# Altium schematic symbol library Relay.SchLib: 200 symbols (part 2 of 2)
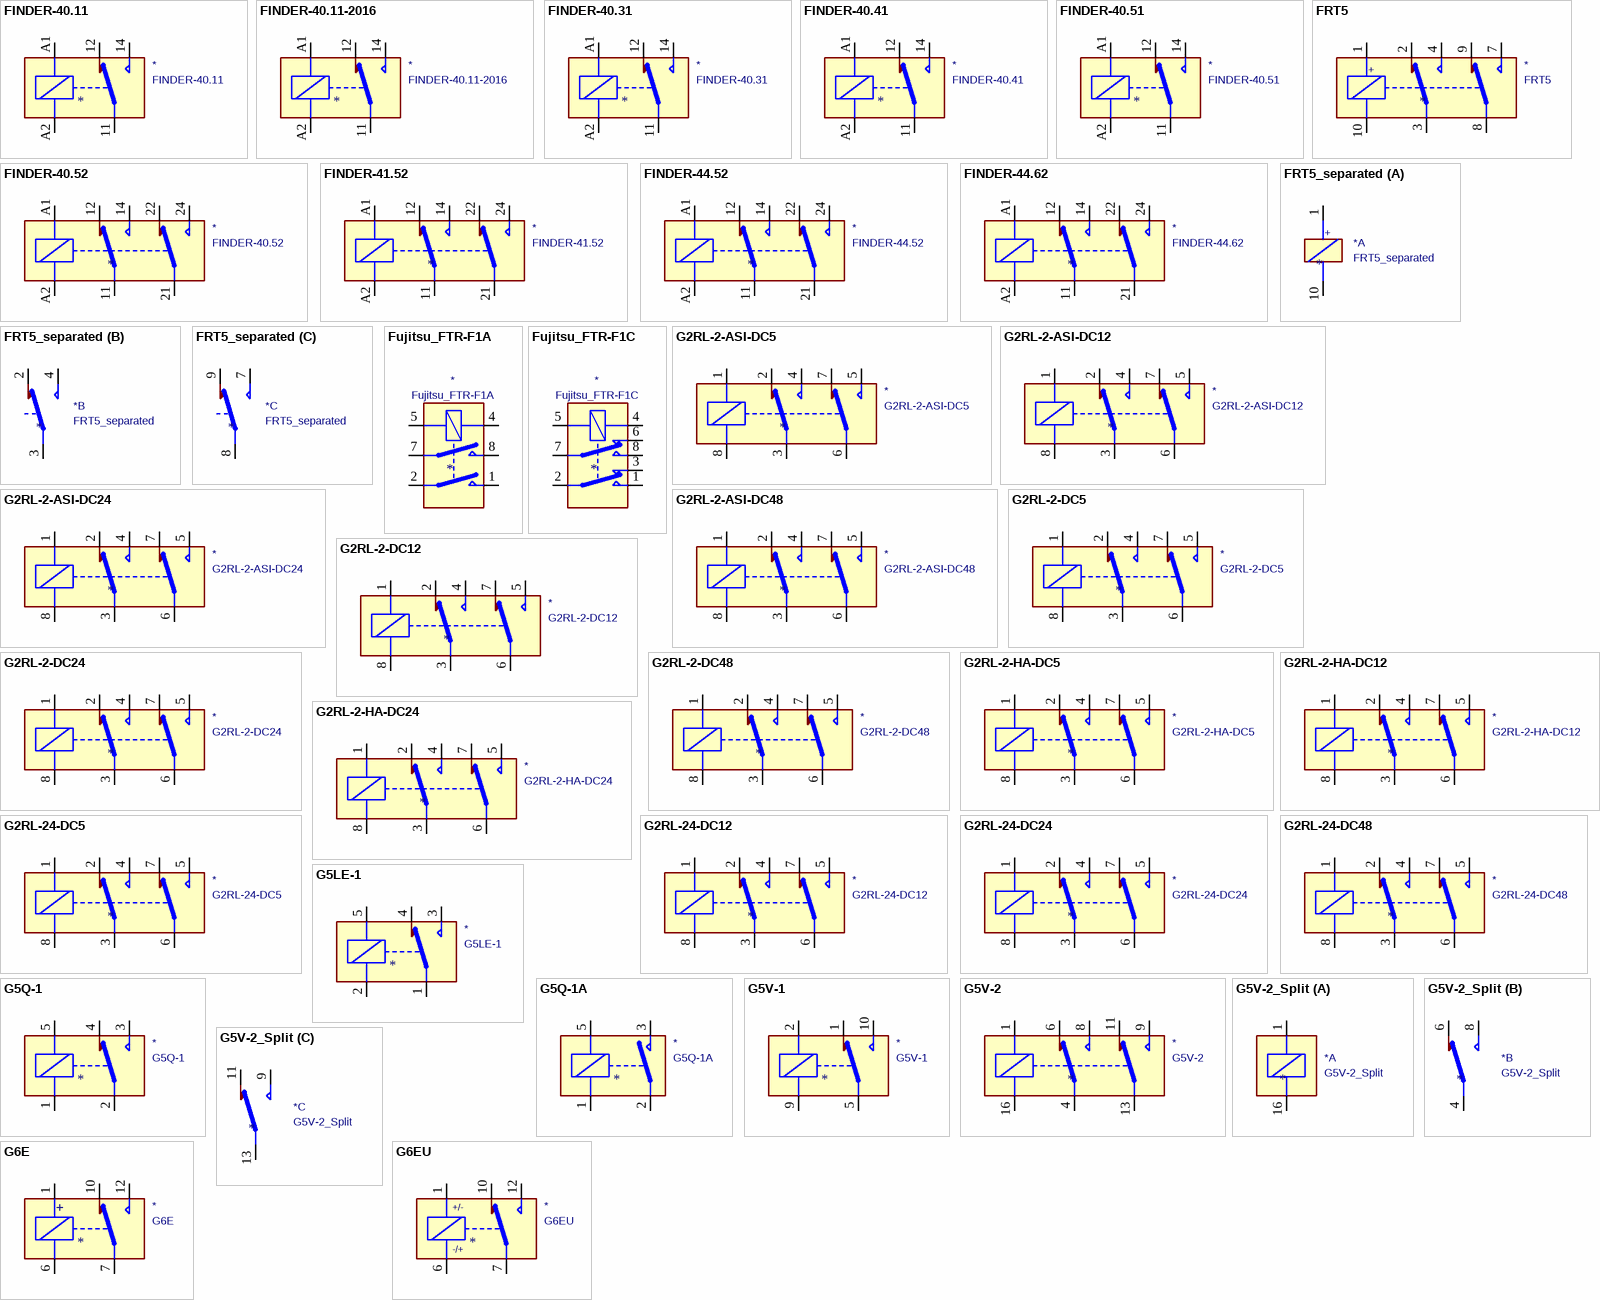
[diagram p6: symbols FINDER-40.11 to G6EU]

## G2RL-24-DC5
designator *  value G2RL-24-DC5
ki_keywords: Omron Relay Dual Pole; ki_description: General Purpose Relay DPDT (2 Form C) Through Hole, Omron G2RL series, sealed, 5V coil; ki_fp_filters: Relay*DPDT*Omron*G2RL*; Footprint: Relay_THT:Relay_DPDT_Omron_G2RL; Supplier: https://omronfs.omron.com/en_US/ecb/products/pdf/en-g2rl.pdf
footprint Relay_DPDT_Omron_G2RL
pins: 1, 2, 3, 4, 5, 6, 7, 8

## G2RL-24-DC12
designator *  value G2RL-24-DC12
ki_keywords: Omron Relay Dual Pole; ki_description: General Purpose Relay DPDT (2 Form C) Through Hole, Omron G2RL series, sealed, 12V coil; ki_fp_filters: Relay*DPDT*Omron*G2RL*; Footprint: Relay_THT:Relay_DPDT_Omron_G2RL; Supplier: https://omronfs.omron.com/en_US/ecb/products/pdf/en-g2rl.pdf
footprint Relay_DPDT_Omron_G2RL
pins: 1, 2, 3, 4, 5, 6, 7, 8

## G2RL-24-DC24
designator *  value G2RL-24-DC24
ki_keywords: Omron Relay Dual Pole; ki_description: General Purpose Relay DPDT (2 Form C) Through Hole, Omron G2RL series, sealed, 24V coil; ki_fp_filters: Relay*DPDT*Omron*G2RL*; Footprint: Relay_THT:Relay_DPDT_Omron_G2RL; Supplier: https://omronfs.omron.com/en_US/ecb/products/pdf/en-g2rl.pdf
footprint Relay_DPDT_Omron_G2RL
pins: 1, 2, 3, 4, 5, 6, 7, 8

## G2RL-24-DC48
designator *  value G2RL-24-DC48
ki_keywords: Omron Relay Dual Pole; ki_description: General Purpose Relay DPDT (2 Form C) Through Hole, Omron G2RL series, sealed, 48V coil; ki_fp_filters: Relay*DPDT*Omron*G2RL*; Footprint: Relay_THT:Relay_DPDT_Omron_G2RL; Supplier: https://omronfs.omron.com/en_US/ecb/products/pdf/en-g2rl.pdf
footprint Relay_DPDT_Omron_G2RL
pins: 1, 2, 3, 4, 5, 6, 7, 8

## G5LE-1
designator *  value G5LE-1
ki_keywords: Miniature Single Pole Relay; ki_description: Omron G5LE relay, Miniature Single Pole, SPDT, 10A; ki_fp_filters: Relay*SPDT*Omron*G5LE?1*; Footprint: Relay_THT:Relay_SPDT_Omron-G5LE-1; Supplier: http://www.omron.com/ecb/products/pdf/en-g5le.pdf
footprint Relay_SPDT_Omron-G5LE-1
pins: 1, 2, 3, 4, 5

## G5Q-1
designator *  value G5Q-1
ki_keywords: Miniature Single Pole Relay; ki_description: Omron G5G relay, Miniature Single Pole, SPDT, 10A; ki_fp_filters: Relay*SPDT*Omron*G5Q*; Footprint: Relay_THT:Relay_SPDT_Omron-G5Q-1; Supplier: https://www.omron.com/ecb/products/pdf/en-g5q.pdf
footprint Relay_SPDT_Omron-G5Q-1
pins: 1, 2, 3, 4, 5

## G5Q-1A
designator *  value G5Q-1A
ki_keywords: Miniature Single Pole Relay; ki_description: Omron G5Q relay, Miniature Single Pole, SPST-NO, 10A; ki_fp_filters: Relay*SPST*Omron*G5Q*; Footprint: Relay_THT:Relay_SPST_Omron-G5Q-1A; Supplier: https://www.omron.com/ecb/products/pdf/en-g5q.pdf
footprint Relay_SPST_Omron-G5Q-1A
pins: 1, 2, 3, 5

## G5V-1
designator *  value G5V-1
ki_keywords: Single Pole Relay SPDT; ki_description: Ultra-miniature, Highly Sensitive SPDT Relay for Signal Circuits; ki_fp_filters: Relay*SPDT*Omron*G5V?1*; Footprint: Relay_THT:Relay_SPDT_Omron_G5V-1; Supplier: http://omronfs.omron.com/en_US/ecb/products/pdf/en-g5v_1.pdf
footprint Relay_SPDT_Omron_G5V-1
pins: 1, 2, 5, 6 hidden, 9, 10

## G5V-2
designator *  value G5V-2
ki_keywords: Miniature Relay Dual Pole DPDT Omron; ki_description: Relay Miniature Omron DPDT; ki_fp_filters: Relay*DPDT*Omron*G5V*; Footprint: Relay_THT:Relay_DPDT_Omron_G5V-2; Supplier: http://omronfs.omron.com/en_US/ecb/products/pdf/en-g5v_2.pdf
footprint Relay_DPDT_Omron_G5V-2
pins: 1, 4, 6, 8, 9, 11, 13, 16

## G5V-2_Split
designator *  value G5V-2_Split
ki_keywords: Miniature Relay Dual Pole DPDT Omron; ki_description: Relay Miniature Omron DPDT; ki_fp_filters: Relay*DPDT*Omron*G5V*; Footprint: Relay_THT:Relay_DPDT_Omron_G5V-2; Supplier: http://omronfs.omron.com/en_US/ecb/products/pdf/en-g5v_2.pdf
footprint Relay_DPDT_Omron_G5V-2
part A pins: 1, 16
part B pins: 4, 6, 8
part C pins: 9, 11, 13

## G6E
designator *  value G6E
ki_keywords: Single Pole Relay SPDT; ki_description: Omron Subminiature Sensitive SPDT Signal Switching Relay, Single-Side Stable; ki_fp_filters: Relay*SPDT*Omron*G6E*; Footprint: Relay_THT:Relay_SPDT_Omron_G6E; Supplier: https://www.omron.com/ecb/products/pdf/en-g6e.pdf
footprint Relay_SPDT_Omron_G6E
pins: 1, 6, 7, 10, 12
text: +

## G6EU
designator *  value G6EU
ki_keywords: Single Pole Relay SPDT; ki_description: Omron G6E relay, Subminiature, Sensitive SPDT Signal Switching Relay, Single-winding latching; ki_fp_filters: Relay*SPDT*Omron*G6E*; Footprint: Relay_THT:Relay_SPDT_Omron_G6E; Supplier: https://www.omron.com/ecb/products/pdf/en-g6e.pdf
footprint Relay_SPDT_Omron_G6E
pins: 1, 6, 7, 10, 12
text: +/-; -/+

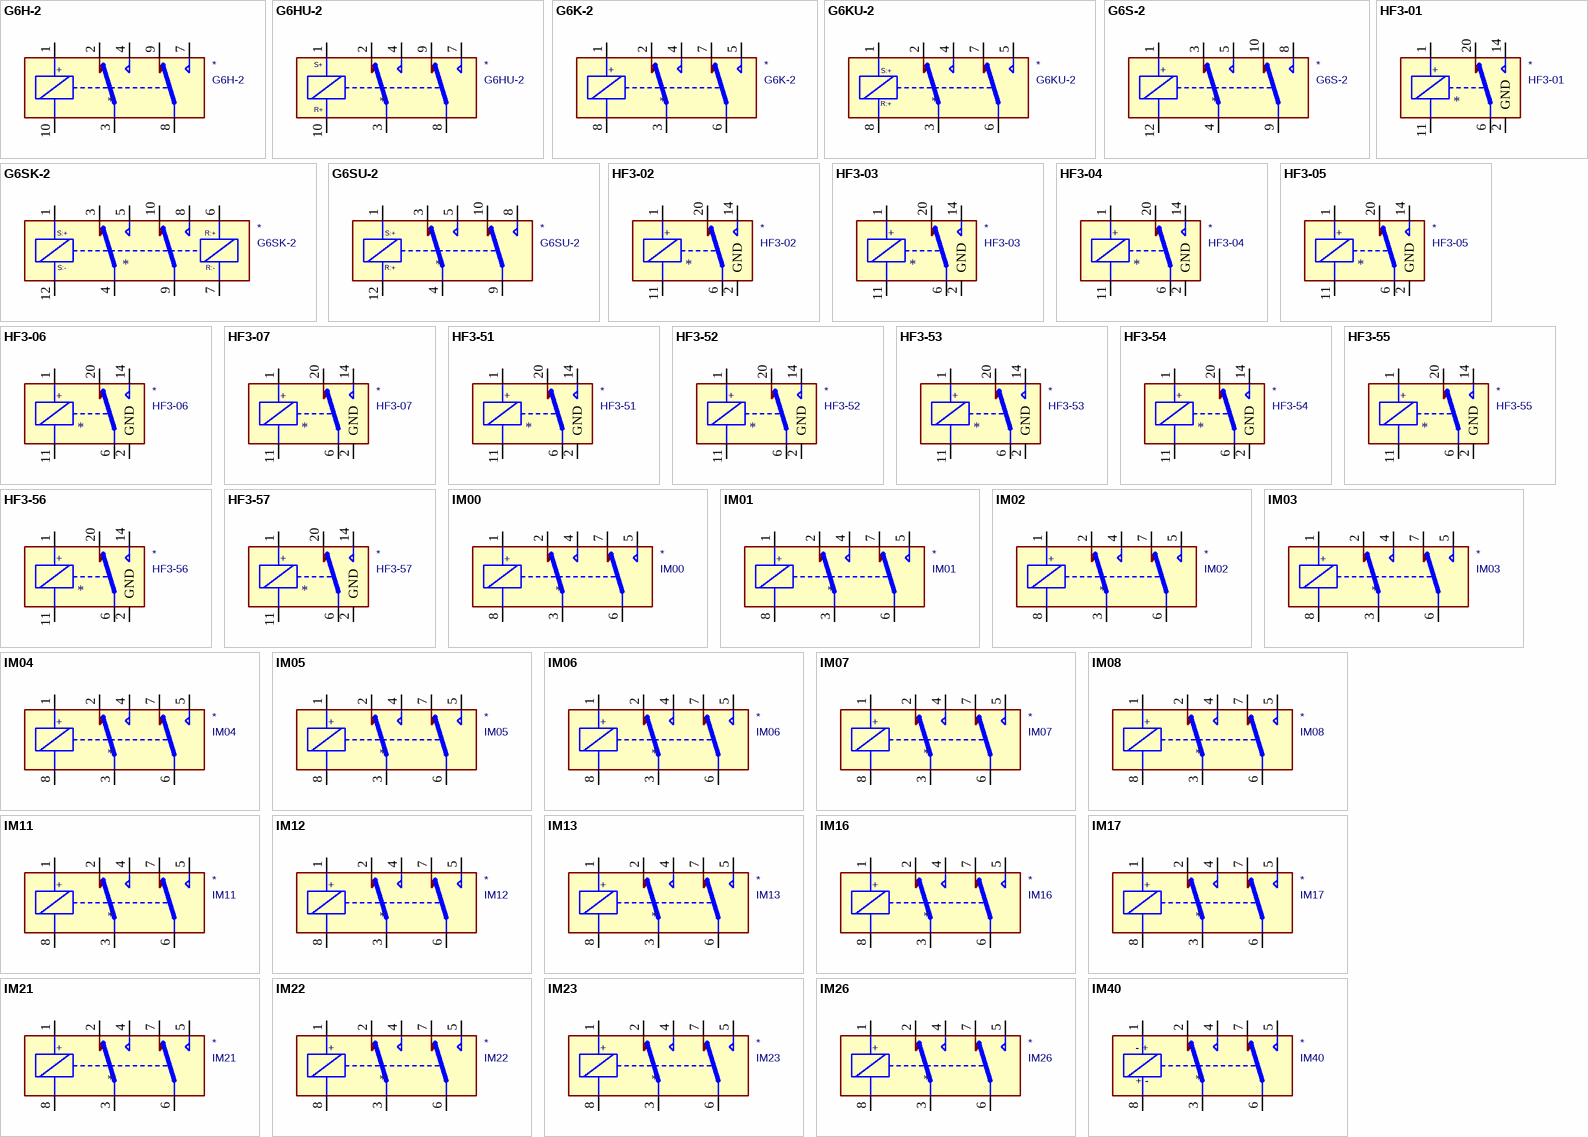
[diagram p3: symbols G6H-2 to IM40]

## G6H-2
designator *  value G6H-2
ki_keywords: relay monostable; ki_description: Omron Ultracompact, Ultrasensitive DPDT Relay, Single-side Stable; ki_fp_filters: Relay*Omron*G6H?2*; Supplier: http://cdn-reichelt.de/documents/datenblatt/C300/G6H%23OMR.pdf
pins: 1, 2, 3, 4, 5 NC (in) hidden, 6 NC (in) hidden, 7, 8, 9, 10
text: +

## G6HU-2
designator *  value G6HU-2
ki_keywords: relay monostable; ki_description: Omron Ultracompact, Ultrasensitive DPDT Relay, Single-winding Latching; ki_fp_filters: Relay*Omron*G6H?2*; Footprint: Relay_THT:Relay_DPDT_Omron_G6H-2; Supplier: http://cdn-reichelt.de/documents/datenblatt/C300/G6H%23OMR.pdf
footprint Relay_DPDT_Omron_G6H-2
pins: 1, 2, 3, 4, 5 NC (in) hidden, 6 NC (in) hidden, 7, 8, 9, 10
text: S+; R+

## G6K-2
designator *  value G6K-2
ki_keywords: Miniature Relay Dual Pole DPDT Omron; ki_description: Miniature 2-pole relay, Single-side Stable; ki_fp_filters: Relay*DPDT*Omron*G6K?2*; Supplier: http://omronfs.omron.com/en_US/ecb/products/pdf/en-g6k.pdf
pins: 1, 2, 3, 4, 5, 6, 7, 8
text: +

## G6KU-2
designator *  value G6KU-2
ki_keywords: Miniature Relay Dual Pole DPDT Omron; ki_description: Miniature 2-pole relay, Single-winding Latching; ki_fp_filters: Relay*DPDT*Omron*G6K?2*Y*; Supplier: http://omronfs.omron.com/en_US/ecb/products/pdf/en-g6k.pdf
pins: 1, 2, 3, 4, 5, 6, 7, 8
text: S:+; R:+

## G6S-2
designator *  value G6S-2
ki_keywords: Miniature Relay Dual Pole DPDT Omron; ki_description: Compact, Industry-Standard 2-pole relay, designed to switch 2A Signal Loads, Single-side Stable; ki_fp_filters: Relay*DPDT*Omron*G6S?2*; Supplier: http://omronfs.omron.com/en_US/ecb/products/pdf/en-g6s.pdf
pins: 1, 3, 4, 5, 8, 9, 10, 12
text: +

## G6SK-2
designator *  value G6SK-2
ki_keywords: Miniature Relay Dual Pole DPDT Omron; ki_description: Compact, Industry-Standard 2-pole relay, designed to switch 2A Signal Loads, Double-winding Latching; ki_fp_filters: Relay*DPDT*Omron*G6SK?2*; Supplier: http://omronfs.omron.com/en_US/ecb/products/pdf/en-g6s.pdf
pins: 1, 3, 4, 5, 6, 7, 8, 9, 10, 12
text: S:+; R:+; S:-; R:-

## G6SU-2
designator *  value G6SU-2
ki_keywords: Miniature Relay Dual Pole DPDT Omron; ki_description: Compact, Industry-Standard 2-pole relay, designed to switch 2A Signal Loads, Single-winding Latching; ki_fp_filters: Relay*DPDT*Omron*G6S?2*; Supplier: http://omronfs.omron.com/en_US/ecb/products/pdf/en-g6s.pdf
pins: 1, 3, 4, 5, 8, 9, 10, 12
text: S:+; R:+

## HF3-01
designator *  value HF3-01
ki_keywords: Single Pole Relay SPDT; ki_description: AXICOM HF3 relay, 3GHz, SPDT RF Switching Relay, 75ohm, 3Vdc, Single-Side Stable; ki_fp_filters: Relay*SPDT*AXICOM*HF3Series*75ohms*Pitch1.27mm*; Footprint: Relay_SMD:Relay_SPDT_AXICOM_HF3Series_75ohms_Pitch1.27mm; Supplier: http://hiqsdr.com/images/3/3e/Axicom-HF3.pdf
footprint Relay_SPDT_AXICOM_HF3Series_75ohms_Pitch1.27mm
pins: 1, 2 GND (power), 5 GND hidden, 6, 7 GND hidden, 10 GND hidden, 11, 12 GND hidden, 13 GND hidden, 14, 15 GND hidden, 17 GND hidden, 19 GND hidden, 20, 21 GND hidden, 22 GND hidden
text: +

## HF3-02
designator *  value HF3-02
ki_keywords: Single Pole Relay SPDT; ki_description: AXICOM HF3 relay, 3GHz, SPDT RF Switching Relay, 75ohm, 4.5Vdc, Single-Side Stable; ki_fp_filters: Relay*SPDT*AXICOM*HF3Series*75ohms*Pitch1.27mm*; Footprint: Relay_SMD:Relay_SPDT_AXICOM_HF3Series_75ohms_Pitch1.27mm; Supplier: http://hiqsdr.com/images/3/3e/Axicom-HF3.pdf
footprint Relay_SPDT_AXICOM_HF3Series_75ohms_Pitch1.27mm
pins: 1, 2 GND (power), 5 GND hidden, 6, 7 GND hidden, 10 GND hidden, 11, 12 GND hidden, 13 GND hidden, 14, 15 GND hidden, 17 GND hidden, 19 GND hidden, 20, 21 GND hidden, 22 GND hidden
text: +

## HF3-03
designator *  value HF3-03
ki_keywords: Single Pole Relay SPDT; ki_description: AXICOM HF3 relay, 3GHz, SPDT RF Switching Relay, 75ohm, 5Vdc, Single-Side Stable; ki_fp_filters: Relay*SPDT*AXICOM*HF3Series*75ohms*Pitch1.27mm*; Footprint: Relay_SMD:Relay_SPDT_AXICOM_HF3Series_75ohms_Pitch1.27mm; Supplier: http://hiqsdr.com/images/3/3e/Axicom-HF3.pdf
footprint Relay_SPDT_AXICOM_HF3Series_75ohms_Pitch1.27mm
pins: 1, 2 GND (power), 5 GND hidden, 6, 7 GND hidden, 10 GND hidden, 11, 12 GND hidden, 13 GND hidden, 14, 15 GND hidden, 17 GND hidden, 19 GND hidden, 20, 21 GND hidden, 22 GND hidden
text: +

## HF3-04
designator *  value HF3-04
ki_keywords: Single Pole Relay SPDT; ki_description: AXICOM HF3 relay, 3GHz, SPDT RF Switching Relay, 75ohm, 6Vdc, Single-Side Stable; ki_fp_filters: Relay*SPDT*AXICOM*HF3Series*75ohms*Pitch1.27mm*; Footprint: Relay_SMD:Relay_SPDT_AXICOM_HF3Series_75ohms_Pitch1.27mm; Supplier: http://hiqsdr.com/images/3/3e/Axicom-HF3.pdf
footprint Relay_SPDT_AXICOM_HF3Series_75ohms_Pitch1.27mm
pins: 1, 2 GND (power), 5 GND hidden, 6, 7 GND hidden, 10 GND hidden, 11, 12 GND hidden, 13 GND hidden, 14, 15 GND hidden, 17 GND hidden, 19 GND hidden, 20, 21 GND hidden, 22 GND hidden
text: +

## HF3-05
designator *  value HF3-05
ki_keywords: Single Pole Relay SPDT; ki_description: AXICOM HF3 relay, 3GHz, SPDT RF Switching Relay, 75ohm, 9Vdc, Single-Side Stable; ki_fp_filters: Relay*SPDT*AXICOM*HF3Series*75ohms*Pitch1.27mm*; Footprint: Relay_SMD:Relay_SPDT_AXICOM_HF3Series_75ohms_Pitch1.27mm; Supplier: http://hiqsdr.com/images/3/3e/Axicom-HF3.pdf
footprint Relay_SPDT_AXICOM_HF3Series_75ohms_Pitch1.27mm
pins: 1, 2 GND (power), 5 GND hidden, 6, 7 GND hidden, 10 GND hidden, 11, 12 GND hidden, 13 GND hidden, 14, 15 GND hidden, 17 GND hidden, 19 GND hidden, 20, 21 GND hidden, 22 GND hidden
text: +

## HF3-06
designator *  value HF3-06
ki_keywords: Single Pole Relay SPDT; ki_description: AXICOM HF3 relay, 3GHz, SPDT RF Switching Relay, 75ohm, 12Vdc, Single-Side Stable; ki_fp_filters: Relay*SPDT*AXICOM*HF3Series*75ohms*Pitch1.27mm*; Footprint: Relay_SMD:Relay_SPDT_AXICOM_HF3Series_75ohms_Pitch1.27mm; Supplier: http://hiqsdr.com/images/3/3e/Axicom-HF3.pdf
footprint Relay_SPDT_AXICOM_HF3Series_75ohms_Pitch1.27mm
pins: 1, 2 GND (power), 5 GND hidden, 6, 7 GND hidden, 10 GND hidden, 11, 12 GND hidden, 13 GND hidden, 14, 15 GND hidden, 17 GND hidden, 19 GND hidden, 20, 21 GND hidden, 22 GND hidden
text: +

## HF3-07
designator *  value HF3-07
ki_keywords: Single Pole Relay SPDT; ki_description: AXICOM HF3 relay, 3GHz, SPDT RF Switching Relay, 75ohm, 24Vdc, Single-Side Stable; ki_fp_filters: Relay*SPDT*AXICOM*HF3Series*75ohms*Pitch1.27mm*; Footprint: Relay_SMD:Relay_SPDT_AXICOM_HF3Series_75ohms_Pitch1.27mm; Supplier: http://hiqsdr.com/images/3/3e/Axicom-HF3.pdf
footprint Relay_SPDT_AXICOM_HF3Series_75ohms_Pitch1.27mm
pins: 1, 2 GND (power), 5 GND hidden, 6, 7 GND hidden, 10 GND hidden, 11, 12 GND hidden, 13 GND hidden, 14, 15 GND hidden, 17 GND hidden, 19 GND hidden, 20, 21 GND hidden, 22 GND hidden
text: +

## HF3-51
designator *  value HF3-51
ki_keywords: Single Pole Relay SPDT; ki_description: AXICOM HF3 relay, 3GHz, SPDT RF Switching Relay, 50ohm, 3Vdc, Single-Side Stable; ki_fp_filters: Relay*SPDT*AXICOM*HF3Series*50ohms*Pitch1.27mm*; Footprint: Relay_SMD:Relay_SPDT_AXICOM_HF3Series_50ohms_Pitch1.27mm; Supplier: http://hiqsdr.com/images/3/3e/Axicom-HF3.pdf
footprint Relay_SPDT_AXICOM_HF3Series_50ohms_Pitch1.27mm
pins: 1, 2 GND (power), 5 GND hidden, 6, 7 GND hidden, 10 GND hidden, 11, 12 GND hidden, 13 GND hidden, 14, 15 GND hidden, 17 GND hidden, 19 GND hidden, 20, 21 GND hidden, 22 GND hidden
text: +

## HF3-52
designator *  value HF3-52
ki_keywords: Single Pole Relay SPDT; ki_description: AXICOM HF3 relay, 3GHz, SPDT RF Switching Relay, 50ohm, 4.5Vdc, Single-Side Stable; ki_fp_filters: Relay*SPDT*AXICOM*HF3Series*50ohms*Pitch1.27mm*; Footprint: Relay_SMD:Relay_SPDT_AXICOM_HF3Series_50ohms_Pitch1.27mm; Supplier: http://hiqsdr.com/images/3/3e/Axicom-HF3.pdf
footprint Relay_SPDT_AXICOM_HF3Series_50ohms_Pitch1.27mm
pins: 1, 2 GND (power), 5 GND hidden, 6, 7 GND hidden, 10 GND hidden, 11, 12 GND hidden, 13 GND hidden, 14, 15 GND hidden, 17 GND hidden, 19 GND hidden, 20, 21 GND hidden, 22 GND hidden
text: +

## HF3-53
designator *  value HF3-53
ki_keywords: Single Pole Relay SPDT; ki_description: AXICOM HF3 relay, 3GHz, SPDT RF Switching Relay, 50ohm, 5Vdc, Single-Side Stable; ki_fp_filters: Relay*SPDT*AXICOM*HF3Series*50ohms*Pitch1.27mm*; Footprint: Relay_SMD:Relay_SPDT_AXICOM_HF3Series_50ohms_Pitch1.27mm; Supplier: http://hiqsdr.com/images/3/3e/Axicom-HF3.pdf
footprint Relay_SPDT_AXICOM_HF3Series_50ohms_Pitch1.27mm
pins: 1, 2 GND (power), 5 GND hidden, 6, 7 GND hidden, 10 GND hidden, 11, 12 GND hidden, 13 GND hidden, 14, 15 GND hidden, 17 GND hidden, 19 GND hidden, 20, 21 GND hidden, 22 GND hidden
text: +

## HF3-54
designator *  value HF3-54
ki_keywords: Single Pole Relay SPDT; ki_description: AXICOM HF3 relay, 3GHz, SPDT RF Switching Relay, 50ohm, 6Vdc, Single-Side Stable; ki_fp_filters: Relay*SPDT*AXICOM*HF3Series*50ohms*Pitch1.27mm*; Footprint: Relay_SMD:Relay_SPDT_AXICOM_HF3Series_50ohms_Pitch1.27mm; Supplier: http://hiqsdr.com/images/3/3e/Axicom-HF3.pdf
footprint Relay_SPDT_AXICOM_HF3Series_50ohms_Pitch1.27mm
pins: 1, 2 GND (power), 5 GND hidden, 6, 7 GND hidden, 10 GND hidden, 11, 12 GND hidden, 13 GND hidden, 14, 15 GND hidden, 17 GND hidden, 19 GND hidden, 20, 21 GND hidden, 22 GND hidden
text: +

## HF3-55
designator *  value HF3-55
ki_keywords: Single Pole Relay SPDT; ki_description: AXICOM HF3 relay, 3GHz, SPDT RF Switching Relay, 50ohm, 9Vdc, Single-Side Stable; ki_fp_filters: Relay*SPDT*AXICOM*HF3Series*50ohms*Pitch1.27mm*; Footprint: Relay_SMD:Relay_SPDT_AXICOM_HF3Series_50ohms_Pitch1.27mm; Supplier: http://hiqsdr.com/images/3/3e/Axicom-HF3.pdf
footprint Relay_SPDT_AXICOM_HF3Series_50ohms_Pitch1.27mm
pins: 1, 2 GND (power), 5 GND hidden, 6, 7 GND hidden, 10 GND hidden, 11, 12 GND hidden, 13 GND hidden, 14, 15 GND hidden, 17 GND hidden, 19 GND hidden, 20, 21 GND hidden, 22 GND hidden
text: +

## HF3-56
designator *  value HF3-56
ki_keywords: Single Pole Relay SPDT; ki_description: AXICOM HF3 relay, 3GHz, SPDT RF Switching Relay, 50ohm, 12Vdc, Single-Side Stable; ki_fp_filters: Relay*SPDT*AXICOM*HF3Series*50ohms*Pitch1.27mm*; Footprint: Relay_SMD:Relay_SPDT_AXICOM_HF3Series_50ohms_Pitch1.27mm; Supplier: http://hiqsdr.com/images/3/3e/Axicom-HF3.pdf
footprint Relay_SPDT_AXICOM_HF3Series_50ohms_Pitch1.27mm
pins: 1, 2 GND (power), 5 GND hidden, 6, 7 GND hidden, 10 GND hidden, 11, 12 GND hidden, 13 GND hidden, 14, 15 GND hidden, 17 GND hidden, 19 GND hidden, 20, 21 GND hidden, 22 GND hidden
text: +

## HF3-57
designator *  value HF3-57
ki_keywords: Single Pole Relay SPDT; ki_description: AXICOM HF3 relay, 3GHz, SPDT RF Switching Relay, 50ohm, 24Vdc, Single-Side Stable; ki_fp_filters: Relay*SPDT*AXICOM*HF3Series*50ohms*Pitch1.27mm*; Footprint: Relay_SMD:Relay_SPDT_AXICOM_HF3Series_50ohms_Pitch1.27mm; Supplier: http://hiqsdr.com/images/3/3e/Axicom-HF3.pdf
footprint Relay_SPDT_AXICOM_HF3Series_50ohms_Pitch1.27mm
pins: 1, 2 GND (power), 5 GND hidden, 6, 7 GND hidden, 10 GND hidden, 11, 12 GND hidden, 13 GND hidden, 14, 15 GND hidden, 17 GND hidden, 19 GND hidden, 20, 21 GND hidden, 22 GND hidden
text: +

## IM00
designator *  value IM00
ki_keywords: relay monostable; ki_description: IM Relay, standard version, monostable, switching current 2/5A, power 60W/62.5VA, voltage 220VDC/250VAC, THT package; ki_fp_filters: Relay*DPDT*AXICOM*IMSeries*; Supplier: http://www.te.com/commerce/DocumentDelivery/DDEController?Action=srchrtrv&DocNm=108-98001&DocType=SS&DocLang=EN
pins: 1, 2, 3, 4, 5, 6, 7, 8
text: +

## IM01
designator *  value IM01
ki_keywords: relay monostable; ki_description: IM Relay, standard version, monostable, switching current 2/5A, power 60W/62.5VA, voltage 220VDC/250VAC; ki_fp_filters: Relay*DPDT*AXICOM*IMSeries*; Supplier: http://www.te.com/commerce/DocumentDelivery/DDEController?Action=srchrtrv&DocNm=108-98001&DocType=SS&DocLang=EN
pins: 1, 2, 3, 4, 5, 6, 7, 8
text: +

## IM02
designator *  value IM02
ki_keywords: relay monostable; ki_description: IM Relay, standard version, monostable, switching current 2/5A, power 60W/62.5VA, voltage 220VDC/250VAC; ki_fp_filters: Relay*DPDT*AXICOM*IMSeries*; Supplier: http://www.te.com/commerce/DocumentDelivery/DDEController?Action=srchrtrv&DocNm=108-98001&DocType=SS&DocLang=EN
pins: 1, 2, 3, 4, 5, 6, 7, 8
text: +

## IM03
designator *  value IM03
ki_keywords: relay monostable; ki_description: IM Relay, standard version, monostable, switching current 2/5A, power 60W/62.5VA, voltage 220VDC/250VAC; ki_fp_filters: Relay*DPDT*AXICOM*IMSeries*; Supplier: http://www.te.com/commerce/DocumentDelivery/DDEController?Action=srchrtrv&DocNm=108-98001&DocType=SS&DocLang=EN
pins: 1, 2, 3, 4, 5, 6, 7, 8
text: +

## IM04
designator *  value IM04
ki_keywords: relay monostable; ki_description: IM Relay, standard version, monostable, switching current 2/5A, power 60W/62.5VA, voltage 220VDC/250VAC; ki_fp_filters: Relay*DPDT*AXICOM*IMSeries*; Supplier: http://www.te.com/commerce/DocumentDelivery/DDEController?Action=srchrtrv&DocNm=108-98001&DocType=SS&DocLang=EN
pins: 1, 2, 3, 4, 5, 6, 7, 8
text: +

## IM05
designator *  value IM05
ki_keywords: relay monostable; ki_description: IM Relay, standard version, monostable, switching current 2/5A, power 60W/62.5VA, voltage 220VDC/250VAC; ki_fp_filters: Relay*DPDT*AXICOM*IMSeries*; Supplier: http://www.te.com/commerce/DocumentDelivery/DDEController?Action=srchrtrv&DocNm=108-98001&DocType=SS&DocLang=EN
pins: 1, 2, 3, 4, 5, 6, 7, 8
text: +

## IM06
designator *  value IM06
ki_keywords: relay monostable; ki_description: IM Relay, standard version, monostable, switching current 2/5A, power 60W/62.5VA, voltage 220VDC/250VAC; ki_fp_filters: Relay*DPDT*AXICOM*IMSeries*; Supplier: http://www.te.com/commerce/DocumentDelivery/DDEController?Action=srchrtrv&DocNm=108-98001&DocType=SS&DocLang=EN
pins: 1, 2, 3, 4, 5, 6, 7, 8
text: +

## IM07
designator *  value IM07
ki_keywords: relay monostable; ki_description: IM Relay, standard version, monostable, switching current 2/5A, power 60W/62.5VA, voltage 220VDC/250VAC; ki_fp_filters: Relay*DPDT*AXICOM*IMSeries*; Supplier: http://www.te.com/commerce/DocumentDelivery/DDEController?Action=srchrtrv&DocNm=108-98001&DocType=SS&DocLang=EN
pins: 1, 2, 3, 4, 5, 6, 7, 8
text: +

## IM08
designator *  value IM08
ki_keywords: relay monostable; ki_description: IM Relay, standard version, monostable, switching current 2/5A, power 60W/62.5VA, voltage 220VDC/250VAC; ki_fp_filters: Relay*DPDT*AXICOM*IMSeries*; Supplier: http://www.te.com/commerce/DocumentDelivery/DDEController?Action=srchrtrv&DocNm=108-98001&DocType=SS&DocLang=EN
pins: 1, 2, 3, 4, 5, 6, 7, 8
text: +

## IM11
designator *  value IM11
ki_keywords: relay monastable sensitive; ki_description: IM Relay, sensitive version, monostable, switching current 2/5A, power 60W/62.5VA, voltage 220VDC/250VAC; ki_fp_filters: Relay*DPDT*AXICOM*IMSeries*; Supplier: http://www.te.com/commerce/DocumentDelivery/DDEController?Action=srchrtrv&DocNm=108-98001&DocType=SS&DocLang=EN
pins: 1, 2, 3, 4, 5, 6, 7, 8
text: +

## IM12
designator *  value IM12
ki_keywords: relay monastable sensitive; ki_description: IM Relay, sensitive version, monostable, switching current 2/5A, power 60W/62.5VA, voltage 220VDC/250VAC; ki_fp_filters: Relay*DPDT*AXICOM*IMSeries*; Supplier: http://www.te.com/commerce/DocumentDelivery/DDEController?Action=srchrtrv&DocNm=108-98001&DocType=SS&DocLang=EN
pins: 1, 2, 3, 4, 5, 6, 7, 8
text: +

## IM13
designator *  value IM13
ki_keywords: relay monastable sensitive; ki_description: IM Relay, sensitive version, monostable, switching current 2/5A, power 60W/62.5VA, voltage 220VDC/250VAC; ki_fp_filters: Relay*DPDT*AXICOM*IMSeries*; Supplier: http://www.te.com/commerce/DocumentDelivery/DDEController?Action=srchrtrv&DocNm=108-98001&DocType=SS&DocLang=EN
pins: 1, 2, 3, 4, 5, 6, 7, 8
text: +

## IM16
designator *  value IM16
ki_keywords: relay monastable sensitive; ki_description: IM Relay, sensitive version, monostable, switching current 2/5A, power 60W/62.5VA, voltage 220VDC/250VAC; ki_fp_filters: Relay*DPDT*AXICOM*IMSeries*; Supplier: http://www.te.com/commerce/DocumentDelivery/DDEController?Action=srchrtrv&DocNm=108-98001&DocType=SS&DocLang=EN
pins: 1, 2, 3, 4, 5, 6, 7, 8
text: +

## IM17
designator *  value IM17
ki_keywords: relay monastable sensitive; ki_description: IM Relay, sensitive version, monostable, switching current 2/5A, power 60W/62.5VA, voltage 220VDC/250VAC; ki_fp_filters: Relay*DPDT*AXICOM*IMSeries*; Supplier: http://www.te.com/commerce/DocumentDelivery/DDEController?Action=srchrtrv&DocNm=108-98001&DocType=SS&DocLang=EN
pins: 1, 2, 3, 4, 5, 6, 7, 8
text: +

## IM21
designator *  value IM21
ki_keywords: relay monastable sensitive; ki_description: IM Relay, high sensitive version, monostable, switching current 2/5A, power 60W/62.5VA, voltage 220VDC/250VAC; ki_fp_filters: Relay*DPDT*AXICOM*IMSeries*; Supplier: http://www.te.com/commerce/DocumentDelivery/DDEController?Action=srchrtrv&DocNm=108-98001&DocType=SS&DocLang=EN
pins: 1, 2, 3, 4, 5, 6, 7, 8
text: +

## IM22
designator *  value IM22
ki_keywords: relay monastable sensitive; ki_description: IM Relay, high sensitive version, monostable, switching current 2/5A, power 60W/62.5VA, voltage 220VDC/250VAC; ki_fp_filters: Relay*DPDT*AXICOM*IMSeries*; Supplier: http://www.te.com/commerce/DocumentDelivery/DDEController?Action=srchrtrv&DocNm=108-98001&DocType=SS&DocLang=EN
pins: 1, 2, 3, 4, 5, 6, 7, 8
text: +

## IM23
designator *  value IM23
ki_keywords: relay monastable sensitive; ki_description: IM Relay, high sensitive version, monostable, switching current 2/5A, power 60W/62.5VA, voltage 220VDC/250VAC; ki_fp_filters: Relay*DPDT*AXICOM*IMSeries*; Supplier: http://www.te.com/commerce/DocumentDelivery/DDEController?Action=srchrtrv&DocNm=108-98001&DocType=SS&DocLang=EN
pins: 1, 2, 3, 4, 5, 6, 7, 8
text: +

## IM26
designator *  value IM26
ki_keywords: relay monastable sensitive; ki_description: IM Relay, high sensitive version, monostable, switching current 2/5A, power 60W/62.5VA, voltage 220VDC/250VAC; ki_fp_filters: Relay*DPDT*AXICOM*IMSeries*; Supplier: http://www.te.com/commerce/DocumentDelivery/DDEController?Action=srchrtrv&DocNm=108-98001&DocType=SS&DocLang=EN
pins: 1, 2, 3, 4, 5, 6, 7, 8
text: +

## IM40
designator *  value IM40
ki_keywords: relay bistable; ki_description: IM Relay, standard version, bistable, switching current 2/5A, power 60W/62.5VA, voltage 220VDC/250VAC; ki_fp_filters: Relay*DPDT*AXICOM*IMSeries*; Supplier: http://www.te.com/commerce/DocumentDelivery/DDEController?Action=srchrtrv&DocNm=108-98001&DocType=SS&DocLang=EN
pins: 1, 2, 3, 4, 5, 6, 7, 8
text: - +; + -

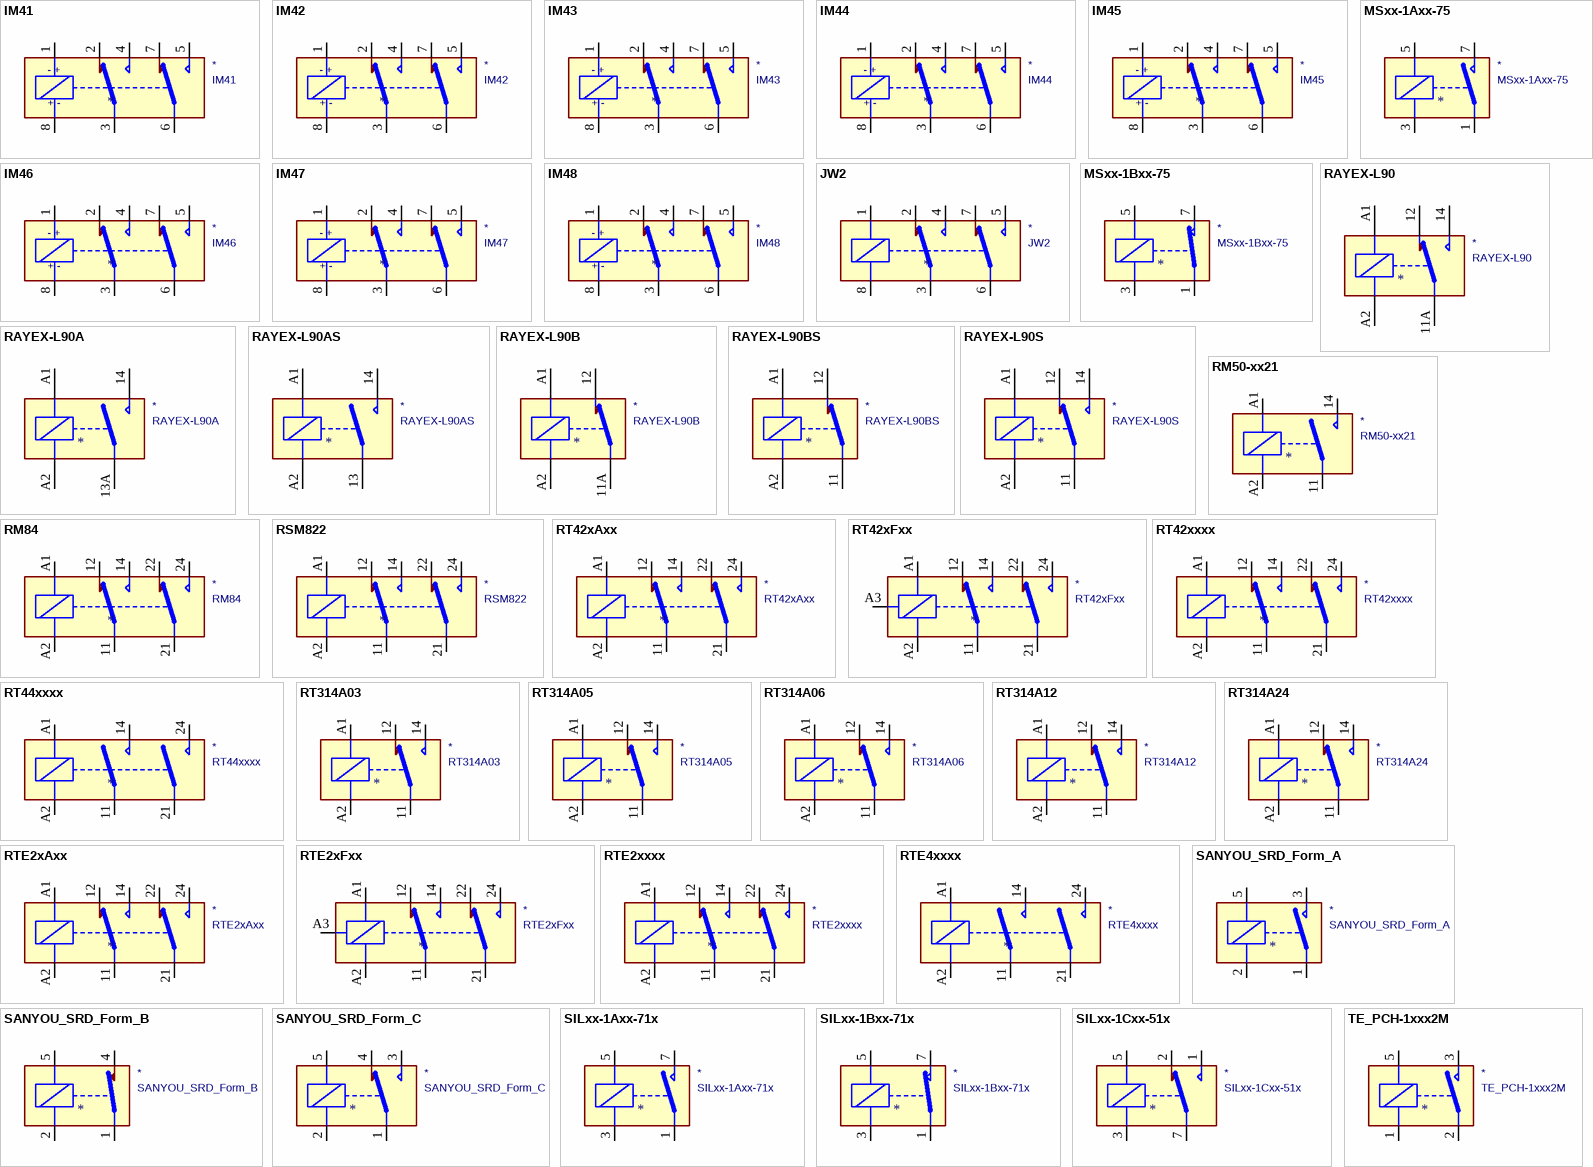
[diagram p4: symbols IM41 to TE_PCH-1xxx2M]

## IM41
designator *  value IM41
ki_keywords: relay bistable; ki_description: IM Relay, standard version, bistable, switching current 2/5A, power 60W/62.5VA, voltage 220VDC/250VAC; ki_fp_filters: Relay*DPDT*AXICOM*IMSeries*; Supplier: http://www.te.com/commerce/DocumentDelivery/DDEController?Action=srchrtrv&DocNm=108-98001&DocType=SS&DocLang=EN
pins: 1, 2, 3, 4, 5, 6, 7, 8
text: - +; + -

## IM42
designator *  value IM42
ki_keywords: relay bistable; ki_description: IM Relay, standard version, bistable, switching current 2/5A, power 60W/62.5VA, voltage 220VDC/250VAC; ki_fp_filters: Relay*DPDT*AXICOM*IMSeries*; Supplier: http://www.te.com/commerce/DocumentDelivery/DDEController?Action=srchrtrv&DocNm=108-98001&DocType=SS&DocLang=EN
pins: 1, 2, 3, 4, 5, 6, 7, 8
text: - +; + -

## IM43
designator *  value IM43
ki_keywords: relay bistable; ki_description: IM Relay, standard version, bistable, switching current 2/5A, power 60W/62.5VA, voltage 220VDC/250VAC; ki_fp_filters: Relay*DPDT*AXICOM*IMSeries*; Supplier: http://www.te.com/commerce/DocumentDelivery/DDEController?Action=srchrtrv&DocNm=108-98001&DocType=SS&DocLang=EN
pins: 1, 2, 3, 4, 5, 6, 7, 8
text: - +; + -

## IM44
designator *  value IM44
ki_keywords: relay bistable; ki_description: IM Relay, standard version, bistable, switching current 2/5A, power 60W/62.5VA, voltage 220VDC/250VAC; ki_fp_filters: Relay*DPDT*AXICOM*IMSeries*; Supplier: http://www.te.com/commerce/DocumentDelivery/DDEController?Action=srchrtrv&DocNm=108-98001&DocType=SS&DocLang=EN
pins: 1, 2, 3, 4, 5, 6, 7, 8
text: - +; + -

## IM45
designator *  value IM45
ki_keywords: relay bistable; ki_description: IM Relay, standard version, bistable, switching current 2/5A, power 60W/62.5VA, voltage 220VDC/250VAC; ki_fp_filters: Relay*DPDT*AXICOM*IMSeries*; Supplier: http://www.te.com/commerce/DocumentDelivery/DDEController?Action=srchrtrv&DocNm=108-98001&DocType=SS&DocLang=EN
pins: 1, 2, 3, 4, 5, 6, 7, 8
text: - +; + -

## IM46
designator *  value IM46
ki_keywords: relay bistable; ki_description: IM Relay, standard version, bistable, switching current 2/5A, power 60W/62.5VA, voltage 220VDC/250VAC; ki_fp_filters: Relay*DPDT*AXICOM*IMSeries*; Supplier: http://www.te.com/commerce/DocumentDelivery/DDEController?Action=srchrtrv&DocNm=108-98001&DocType=SS&DocLang=EN
pins: 1, 2, 3, 4, 5, 6, 7, 8
text: - +; + -

## IM47
designator *  value IM47
ki_keywords: relay bistable; ki_description: IM Relay, standard version, bistable, switching current 2/5A, power 60W/62.5VA, voltage 220VDC/250VAC; ki_fp_filters: Relay*DPDT*AXICOM*IMSeries*; Supplier: http://www.te.com/commerce/DocumentDelivery/DDEController?Action=srchrtrv&DocNm=108-98001&DocType=SS&DocLang=EN
pins: 1, 2, 3, 4, 5, 6, 7, 8
text: - +; + -

## IM48
designator *  value IM48
ki_keywords: relay bistable; ki_description: IM Relay, standard version, bistable, switching current 2/5A, power 60W/62.5VA, voltage 220VDC/250VAC; ki_fp_filters: Relay*DPDT*AXICOM*IMSeries*; Supplier: http://www.te.com/commerce/DocumentDelivery/DDEController?Action=srchrtrv&DocNm=108-98001&DocType=SS&DocLang=EN
pins: 1, 2, 3, 4, 5, 6, 7, 8
text: - +; + -

## JW2
designator *  value JW2
ki_keywords: Panasonic Relay Dual Pole; ki_description: General Purpose Relay DPDT (2 Form C) Through Hole, Panasonic JW series; ki_fp_filters: Relay*DPDT*Panasonic*JW2*; Footprint: Relay_THT:Relay_DPDT_Panasonic_JW2; Supplier: http://www3.panasonic.biz/ac/e_download/control/relay/power/catalog/mech_eng_jw.pdf?via=ok
footprint Relay_DPDT_Panasonic_JW2
pins: 1, 2, 3, 4, 5, 6, 7, 8

## MSxx-1Axx-75
designator *  value MSxx-1Axx-75
ki_keywords: Single Pole Reed Relay SPST; ki_description: Standex Meder MS reed relay, SPST, Closing Contact; ki_fp_filters: Relay*SPST*StandexMeder*MS*Form1AB*; Footprint: Relay_THT:Relay_SPST_StandexMeder_MS_Form1AB; Supplier: https://standexelectronics.com/de/produkte/ms-reed-relais/
footprint Relay_SPST_StandexMeder_MS_Form1AB
pins: 1, 3, 5, 7

## MSxx-1Bxx-75
designator *  value MSxx-1Bxx-75
ki_keywords: Single Pole Reed Relay SPST; ki_description: Standex Meder MS reed relay, SPST, Opening Contact; ki_fp_filters: Relay*SPST*StandexMeder*MS*Form1AB*; Footprint: Relay_THT:Relay_SPST_StandexMeder_MS_Form1AB; Supplier: https://standexelectronics.com/de/produkte/ms-reed-relais/
footprint Relay_SPST_StandexMeder_MS_Form1AB
pins: 1, 3, 5, 7

## RAYEX-L90
designator *  value RAYEX-L90
ki_keywords: 30A Single Pole Relay; ki_description: Power relay, SPDT, 30A; ki_fp_filters: Relay*SPDT*RAYEX*L90*; Footprint: Relay_THT:Relay_SPDT_RAYEX-L90; Supplier: https://a3.sofastcdn.com/attachment/7jioKBjnRiiSrjrjknRiwS77gwbf3zmp/L90-SERIES.pdf
footprint Relay_SPDT_RAYEX-L90
pins: 11A, 11B hidden, 12, 14, A1, A2

## RAYEX-L90A
designator *  value RAYEX-L90A
ki_keywords: 30A Single Pole Relay; ki_description: Power relay, NO, SPST, 30A; ki_fp_filters: Relay*SPST*RAYEX*L90A*; Footprint: Relay_THT:Relay_SPST_RAYEX-L90A; Supplier: https://a3.sofastcdn.com/attachment/7jioKBjnRiiSrjrjknRiwS77gwbf3zmp/L90-SERIES.pdf
footprint Relay_SPST_RAYEX-L90A
pins: 13A, 13B hidden, 14, A1, A2

## RAYEX-L90AS
designator *  value RAYEX-L90AS
ki_keywords: 30A Single Pole Relay; ki_description: Power relay, Without Common Terminal between coil terminals, NO, SPST, 30A; ki_fp_filters: Relay*SPST*RAYEX*L90A*; Footprint: Relay_THT:Relay_SPST_RAYEX-L90AS; Supplier: https://a3.sofastcdn.com/attachment/7jioKBjnRiiSrjrjknRiwS77gwbf3zmp/L90-SERIES.pdf
footprint Relay_SPST_RAYEX-L90AS
pins: 13, 14, A1, A2

## RAYEX-L90B
designator *  value RAYEX-L90B
ki_keywords: 30A Single Pole Relay; ki_description: Power relay, NC, SPST, 30A; ki_fp_filters: Relay*SPST*RAYEX*L90B*; Footprint: Relay_THT:Relay_SPST_RAYEX-L90B; Supplier: https://a3.sofastcdn.com/attachment/7jioKBjnRiiSrjrjknRiwS77gwbf3zmp/L90-SERIES.pdf
footprint Relay_SPST_RAYEX-L90B
pins: 11A, 11B hidden, 12, A1, A2

## RAYEX-L90BS
designator *  value RAYEX-L90BS
ki_keywords: 30A Single Pole Relay; ki_description: Power relay, Without Common Terminal between coil terminals, NC, SPST, 30A; ki_fp_filters: Relay*SPST*RAYEX*L90B*; Footprint: Relay_THT:Relay_SPST_RAYEX-L90BS; Supplier: https://a3.sofastcdn.com/attachment/7jioKBjnRiiSrjrjknRiwS77gwbf3zmp/L90-SERIES.pdf
footprint Relay_SPST_RAYEX-L90BS
pins: 11, 12, A1, A2

## RAYEX-L90S
designator *  value RAYEX-L90S
ki_keywords: 30A Single Pole Relay; ki_description: Power relay, Without Common Terminal between coil terminals, SPDT, 30A; ki_fp_filters: Relay*SPDT*RAYEX*L90S*; Footprint: Relay_THT:Relay_SPDT_RAYEX-L90S; Supplier: https://a3.sofastcdn.com/attachment/7jioKBjnRiiSrjrjknRiwS77gwbf3zmp/L90-SERIES.pdf
footprint Relay_SPDT_RAYEX-L90S
pins: 11, 12, 14, A1, A2

## RM50-xx21
designator *  value RM50-xx21
ki_keywords: Single Pole Relay SPST-NO; ki_description: RELPOL, Single Pole Relay SPST-NO, 6A; ki_fp_filters: Relay*SPST*Finder*32.21*x300*; Footprint: Relay_THT:Relay_SPST_Finder_32.21-x300; Supplier: http://www.relpol.pl/en/content/download/13683/165953/file/e_RM50.pdf
footprint Relay_SPST_Finder_32.21-x300
pins: 11, 14, A1, A2

## RM84
designator *  value RM84
ki_keywords: Dual Pole Relay; ki_description: RELPOL Dual Pole Relay, 5mm Pitch, 8A; ki_fp_filters: Relay*DPDT*Finder*40.52*; Footprint: Relay_THT:Relay_DPDT_Finder_40.52; Supplier: http://www.relpol.pl/en/content/download/13766/168095/file/e_RM84.pdf
footprint Relay_DPDT_Finder_40.52
pins: 11, 12, 14, 21, 22, 24, A1, A2

## RSM822
designator *  value RSM822
ki_keywords: Dual Pole Relay; ki_description: RELPOL Dual Pole Relay, 5mm Pitch, 2A; ki_fp_filters: Relay*DPDT*Finder*40.52*; Footprint: Relay_THT:Relay_DPDT_Finder_40.52; Supplier: http://www.relpol.pl/en/content/download/14975/202519/file/e_RSM822.pdf
footprint Relay_DPDT_Finder_40.52
pins: 11, 12, 14, 21, 22, 24, A1, A2

## RT42xAxx
designator *  value RT42xAxx
ki_keywords: TE DPDT CO bistable DC; ki_description: Schrack RT2 relay, bistable dual pole dual throw, single DC coil; ki_fp_filters: Relay*DPDT*RT2*FormC*; Footprint: Relay_THT:Relay_DPDT_Schrack-RT2-FormC_RM5mm; Supplier: http://www.te.com/commerce/DocumentDelivery/DDEController?Action=showdoc&DocId=Data+Sheet%7FRT2_bistable%7F1116%7Fpdf%7FEnglish%7FENG_DS_RT2_bistable_1116.pdf%7F1-1415537-8
footprint Relay_DPDT_Schrack-RT2-FormC_RM5mm
pins: 11, 12, 14, 21, 22, 24, A1, A2

## RT42xFxx
designator *  value RT42xFxx
ki_keywords: TE DPDT CO bistable DC; ki_description: Schrack RT2 relay, bistable dual pole dual throw, dual DC coils; ki_fp_filters: Relay*DPDT*RT2*FormC*; Footprint: Relay_THT:Relay_DPDT_Schrack-RT2-FormC-Dual-Coil_RM5mm; Supplier: http://www.te.com/commerce/DocumentDelivery/DDEController?Action=showdoc&DocId=Data+Sheet%7FRT2_bistable%7F1116%7Fpdf%7FEnglish%7FENG_DS_RT2_bistable_1116.pdf%7F1-1415537-8
footprint Relay_DPDT_Schrack-RT2-FormC-Dual-Coil_RM5mm
pins: 11, 12, 14, 21, 22, 24, A1, A2, A3

## RT42xxxx
designator *  value RT42xxxx
ki_keywords: TE DPDT CO monostable; ki_description: Schrack RT2 relay, monostable dual pole dual throw, DC or AC coil; ki_fp_filters: Relay*DPDT*RT2*FormC*; Footprint: Relay_THT:Relay_DPDT_Schrack-RT2-FormC_RM5mm; Supplier: http://www.te.com/commerce/DocumentDelivery/DDEController?Action=showdoc&DocId=Data+Sheet%7FRT2%7F1014%7Fpdf%7FEnglish%7FENG_DS_RT2_1014.pdf%7F6-1393243-3
footprint Relay_DPDT_Schrack-RT2-FormC_RM5mm
pins: 11, 12, 14, 21, 22, 24, A1, A2

## RT44xxxx
designator *  value RT44xxxx
ki_keywords: TE DPST NO monostable; ki_description: Schrack RT2 relay, monostable dual pole normally open, DC or AC coil; ki_fp_filters: Relay*DPST*RT2*FormA*; Footprint: Relay_THT:Relay_DPST_Schrack-RT2-FormA_RM5mm; Supplier: http://www.te.com/commerce/DocumentDelivery/DDEController?Action=showdoc&DocId=Data+Sheet%7FRT2%7F1014%7Fpdf%7FEnglish%7FENG_DS_RT2_1014.pdf%7F6-1393243-3
footprint Relay_DPST_Schrack-RT2-FormA_RM5mm
pins: 11, 14, 21, 24, A1, A2

## RT314A03
designator *  value RT314A03
ki_keywords: TE SPDT 1P2T CO bistable DC; ki_description: Schrack RT1 relay, bistable single pole dual throw, single DC coil, 3V; ki_fp_filters: Relay*SPDT*Schrack*RT1*16A*FormC*RM5mm*; Footprint: Relay_THT:Relay_SPDT_Schrack-RT1-16A-FormC_RM5mm; Supplier: https://www.te.com/commerce/DocumentDelivery/DDEController?Action=srchrtrv&DocNm=RT1_bistable&DocType=DS&DocLang=English
footprint Relay_SPDT_Schrack-RT1-16A-FormC_RM5mm
pins: 11, 12, 14, A1, A2

## RT314A05
designator *  value RT314A05
ki_keywords: TE SPDT 1P2T CO bistable DC; ki_description: Schrack RT1 relay, bistable single pole dual throw, single DC coil, 5V; ki_fp_filters: Relay*SPDT*Schrack*RT1*16A*FormC*RM5mm*; Footprint: Relay_THT:Relay_SPDT_Schrack-RT1-16A-FormC_RM5mm; Supplier: https://www.te.com/commerce/DocumentDelivery/DDEController?Action=srchrtrv&DocNm=RT1_bistable&DocType=DS&DocLang=English
footprint Relay_SPDT_Schrack-RT1-16A-FormC_RM5mm
pins: 11, 12, 14, A1, A2

## RT314A06
designator *  value RT314A06
ki_keywords: TE SPDT 1P2T CO bistable DC; ki_description: Schrack RT1 relay, bistablesingle pole dual throw, single DC coil, 6V; ki_fp_filters: Relay*SPDT*Schrack*RT1*16A*FormC*RM5mm*; Footprint: Relay_THT:Relay_SPDT_Schrack-RT1-16A-FormC_RM5mm; Supplier: https://www.te.com/commerce/DocumentDelivery/DDEController?Action=srchrtrv&DocNm=RT1_bistable&DocType=DS&DocLang=English
footprint Relay_SPDT_Schrack-RT1-16A-FormC_RM5mm
pins: 11, 12, 14, A1, A2

## RT314A12
designator *  value RT314A12
ki_keywords: TE SPDT 1P2T CO bistable DC; ki_description: Schrack RT1 relay, bistable single pole dual throw, single DC coil, 12V; ki_fp_filters: Relay*SPDT*Schrack*RT1*16A*FormC*RM5mm*; Footprint: Relay_THT:Relay_SPDT_Schrack-RT1-16A-FormC_RM5mm; Supplier: https://www.te.com/commerce/DocumentDelivery/DDEController?Action=srchrtrv&DocNm=RT1_bistable&DocType=DS&DocLang=English
footprint Relay_SPDT_Schrack-RT1-16A-FormC_RM5mm
pins: 11, 12, 14, A1, A2

## RT314A24
designator *  value RT314A24
ki_keywords: TE SPDT 1P2T CO bistable DC; ki_description: Schrack RT1 relay, bistable single pole dual throw, single DC coil, 24V, IEC 60335-1; ki_fp_filters: Relay*SPDT*Schrack*RT1*16A*FormC*RM5mm*; Footprint: Relay_THT:Relay_SPDT_Schrack-RT1-16A-FormC_RM5mm; Supplier: https://www.te.com/commerce/DocumentDelivery/DDEController?Action=srchrtrv&DocNm=RT1_bistable&DocType=DS&DocLang=English
footprint Relay_SPDT_Schrack-RT1-16A-FormC_RM5mm
pins: 11, 12, 14, A1, A2

## RTE2xAxx
designator *  value RTE2xAxx
ki_keywords: TE DPDT CO bistable DC; ki_description: Schrack RT2 relay, bistable dual pole dual throw, single DC coil; ki_fp_filters: Relay*DPDT*RT2*FormC*; Footprint: Relay_THT:Relay_DPDT_Schrack-RT2-FormC_RM5mm; Supplier: http://www.te.com/commerce/DocumentDelivery/DDEController?Action=showdoc&DocId=Data+Sheet%7FRT2_bistable%7F1116%7Fpdf%7FEnglish%7FENG_DS_RT2_bistable_1116.pdf%7F1-1415537-8
footprint Relay_DPDT_Schrack-RT2-FormC_RM5mm
pins: 11, 12, 14, 21, 22, 24, A1, A2

## RTE2xFxx
designator *  value RTE2xFxx
ki_keywords: TE DPDT CO bistable DC; ki_description: Schrack RT2 relay, bistable dual pole dual throw, dual DC coils; ki_fp_filters: Relay*DPDT*RT2*FormC*; Footprint: Relay_THT:Relay_DPDT_Schrack-RT2-FormC-Dual-Coil_RM5mm; Supplier: http://www.te.com/commerce/DocumentDelivery/DDEController?Action=showdoc&DocId=Data+Sheet%7FRT2_bistable%7F1116%7Fpdf%7FEnglish%7FENG_DS_RT2_bistable_1116.pdf%7F1-1415537-8
footprint Relay_DPDT_Schrack-RT2-FormC-Dual-Coil_RM5mm
pins: 11, 12, 14, 21, 22, 24, A1, A2, A3

## RTE2xxxx
designator *  value RTE2xxxx
ki_keywords: TE DPDT CO monostable; ki_description: Schrack RT2 relay, monostable dual pole dual throw, DC or AC coil; ki_fp_filters: Relay*DPDT*RT2*FormC*; Footprint: Relay_THT:Relay_DPDT_Schrack-RT2-FormC_RM5mm; Supplier: http://www.te.com/commerce/DocumentDelivery/DDEController?Action=showdoc&DocId=Data+Sheet%7FRT2%7F1014%7Fpdf%7FEnglish%7FENG_DS_RT2_1014.pdf%7F6-1393243-3
footprint Relay_DPDT_Schrack-RT2-FormC_RM5mm
pins: 11, 12, 14, 21, 22, 24, A1, A2

## RTE4xxxx
designator *  value RTE4xxxx
ki_keywords: TE DPST NO monostable; ki_description: Schrack RT2 relay, monostable dual pole normally open, DC or AC coil; ki_fp_filters: Relay*DPST*RT2*FormA*; Footprint: Relay_THT:Relay_DPST_Schrack-RT2-FormA_RM5mm; Supplier: http://www.te.com/commerce/DocumentDelivery/DDEController?Action=showdoc&DocId=Data+Sheet%7FRT2%7F1014%7Fpdf%7FEnglish%7FENG_DS_RT2_1014.pdf%7F6-1393243-3
footprint Relay_DPST_Schrack-RT2-FormA_RM5mm
pins: 11, 14, 21, 24, A1, A2

## SANYOU_SRD_Form_A
designator *  value SANYOU_SRD_Form_A
ki_keywords: Single Pole Relay SPST; ki_description: Sanyo SRD relay, Single Pole Miniature Power Relay, Closing Contact; ki_fp_filters: Relay*SPST*SANYOU*SRD*Series*Form*A*; Footprint: Relay_THT:Relay_SPST_SANYOU_SRD_Series_Form_A; Supplier: http://www.sanyourelay.ca/public/products/pdf/SRD.pdf
footprint Relay_SPST_SANYOU_SRD_Series_Form_A
pins: 1, 2, 3, 5

## SANYOU_SRD_Form_B
designator *  value SANYOU_SRD_Form_B
ki_keywords: Single Pole Relay SPST; ki_description: Sanyo SRD relay, Single Pole Miniature Power Relay, Opening Contact; ki_fp_filters: Relay*SPST*SANYOU*SRD*Series*Form*B*; Footprint: Relay_THT:Relay_SPST_SANYOU_SRD_Series_Form_B; Supplier: http://www.sanyourelay.ca/public/products/pdf/SRD.pdf
footprint Relay_SPST_SANYOU_SRD_Series_Form_B
pins: 1, 2, 4, 5

## SANYOU_SRD_Form_C
designator *  value SANYOU_SRD_Form_C
ki_keywords: Single Pole Relay SPDT; ki_description: Sanyo SRD relay, Single Pole Miniature Power Relay,; ki_fp_filters: Relay*SPDT*SANYOU*SRD*Series*Form*C*; Footprint: Relay_THT:Relay_SPDT_SANYOU_SRD_Series_Form_C; Supplier: http://www.sanyourelay.ca/public/products/pdf/SRD.pdf
footprint Relay_SPDT_SANYOU_SRD_Series_Form_C
pins: 1, 2, 3, 4, 5

## SILxx-1Axx-71x
designator *  value SILxx-1Axx-71x
ki_keywords: Single Pole Reed Relay SPST; ki_description: Standex Meder SIL reed relay, SPST, Closing Contact; ki_fp_filters: Relay*SPST*StandexMeder*SIL*Form1A*; Footprint: Relay_THT:Relay_SPST_StandexMeder_SIL_Form1A; Supplier: https://standexelectronics.com/wp-content/uploads/datasheet_reed_relay_SIL.pdf
footprint Relay_SPST_StandexMeder_SIL_Form1A
pins: 1, 3, 5, 7

## SILxx-1Bxx-71x
designator *  value SILxx-1Bxx-71x
ki_keywords: Single Pole Reed Relay SPST; ki_description: Standex Meder SIL reed relay, SPST, Opening Contact; ki_fp_filters: Relay*SPST*StandexMeder*SIL*Form1B*; Footprint: Relay_THT:Relay_SPST_StandexMeder_SIL_Form1B; Supplier: https://standexelectronics.com/wp-content/uploads/datasheet_reed_relay_SIL.pdf
footprint Relay_SPST_StandexMeder_SIL_Form1B
pins: 1, 3, 5, 7

## SILxx-1Cxx-51x
designator *  value SILxx-1Cxx-51x
ki_keywords: Single Pole Reed Relay SPDT; ki_description: Standex Meder SIL reed relay, SPDT; ki_fp_filters: Relay*SPDT*StandexMeder*SIL*Form1C*; Footprint: Relay_THT:Relay_SPDT_StandexMeder_SIL_Form1C; Supplier: https://standexelectronics.com/wp-content/uploads/datasheet_reed_relay_SIL.pdf
footprint Relay_SPDT_StandexMeder_SIL_Form1C
pins: 1, 2, 3, 5, 7

## TE_PCH-1xxx2M
designator *  value TE_PCH-1xxx2M
ki_keywords: Miniature Single Pole Relay; ki_description: TE PCH relay, Miniature Single Pole, SPST-NO; ki_fp_filters: Relay*SPST*TE*PCH*1***2M*; Footprint: Relay_THT:Relay_SPST_TE_PCH-1xxx2M; Supplier: http://www.te.com/commerce/DocumentDelivery/DDEController?Action=showdoc&DocId=Data+Sheet%7FPCH_series_relay_data_sheet_E%7F1215%7Fpdf%7FEnglish%7FENG_DS_PCH_series_relay_data_sheet_E_1215.pdf%7F9-1440003-0
footprint Relay_SPST_TE_PCH-1xxx2M
pins: 1, 2, 3, 5

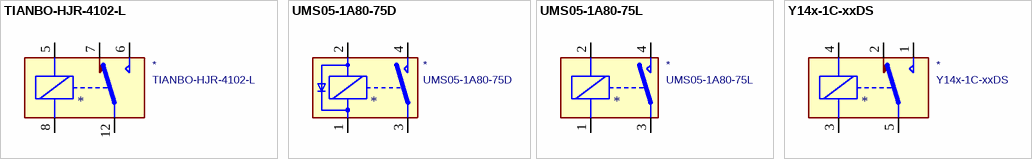
[diagram p5: symbols TIANBO-HJR-4102-L to Y14x-1C-xxDS]

## TIANBO-HJR-4102-L
designator *  value TIANBO-HJR-4102-L
ki_keywords: Single Pole Relay; ki_description: TIANBO HJR-4102-L, Single Pole Relay, 5mm Pitch, 3A; ki_fp_filters: Relay*HJR?4102*; Footprint: Relay_THT:Relay_SPDT_HJR-4102; Supplier: https://cdn-reichelt.de/documents/datenblatt/C300/DS_HJR4102E.pdf
footprint Relay_SPDT_HJR-4102
pins: 5, 6, 7, 8, 12

## UMS05-1A80-75D
designator *  value UMS05-1A80-75D
ki_keywords: Single Pole Reed Relay SPST; ki_description: Standex Meder UMS reed relay, SPST, Closing Contact, with diode; ki_fp_filters: Relay*StandexMeder*UMS*; Footprint: Relay_THT:Relay_StandexMeder_UMS; Supplier: https://standexelectronics.com/de/produkte/ums-reed-relais/
footprint Relay_StandexMeder_UMS
pins: 1, 2, 3, 4

## UMS05-1A80-75L
designator *  value UMS05-1A80-75L
ki_keywords: Single Pole Reed Relay SPST; ki_description: Standex Meder UMS reed relay, SPST, Closing Contact; ki_fp_filters: Relay*StandexMeder*UMS*; Footprint: Relay_THT:Relay_StandexMeder_UMS; Supplier: https://standexelectronics.com/de/produkte/ums-reed-relais/
footprint Relay_StandexMeder_UMS
pins: 1, 2, 3, 4

## Y14x-1C-xxDS
designator *  value Y14x-1C-xxDS
ki_keywords: Relay SPDT; ki_description: Hsin Da Y14-series relay, Single Pole Dual Throw; ki_fp_filters: Relay*Y14*; Footprint: Relay_THT:Relay_SPDT_HsinDa_Y14; Supplier: http://www.hsinda.com.cn/en/imgdown.asp?FileName=UploadFiles/201431310240386.pdf
footprint Relay_SPDT_HsinDa_Y14
pins: 1, 2, 3, 4, 5, 6 hidden